# Altium footprint library AltiumDesigner.PcbLib: 3 footprints
Each footprint in its own frame and in the unit in brackets; x right, y up, seen from the top. Pads: shape width x height; smd on the part's side, far side on the other; paste and mask are expansions set on the pad; w line width, h text height; cw(c..) or ccw(c..) is an arc to the next point about the centre after c.
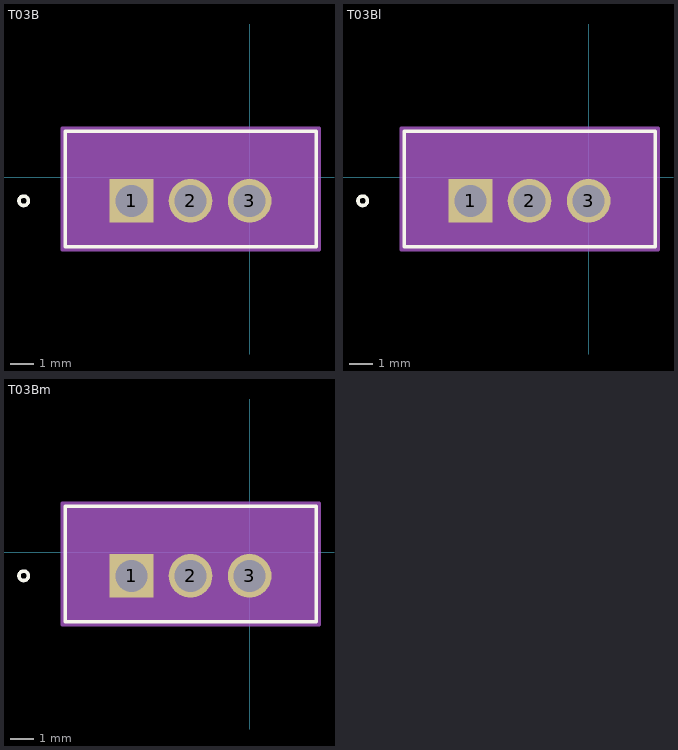
[diagram p0: the footprints below, top view; thin cyan lines are the x and y axes]

## T03B [mil]
pads (3):
  rect 74x74 hole 54: 1(-200,-40)
  round 74 hole 54: 2(-100,-40) 3(0,-40)
Top Overlay:
  circle w6: c-382.5,-40 r8
  lines w6: -312.5,-117.5 112.5,-117.5 112.5,77.5 -312.5,77.5 -312.5,-117.5
Mechanical 13:
  circle w0: c-287.5,-40 r8
  lines w1: -307.5,-112.5 107.5,-112.5 107.5,72.5 -307.5,72.5 -307.5,-112.5
  lines w6: -210,-40 -190,-40 ; -200,-50 -200,-30
Mechanical 15:
  region: 117.5,-122.5 -317.5,-122.5 -317.5,82.5 117.5,82.5
  lines w6: -317.5,-122.5 -317.5,82.5 117.5,82.5 117.5,-122.5 -317.5,-122.5
3D body: height 10, standoff 0, extent 0,0 10,10

## T03Bl [mil]
pads (3):
  rect 74x74 hole 54: 1(-200,-40)
  round 74 hole 54: 2(-100,-40) 3(0,-40)
Top Overlay:
  circle w6: c-382.5,-40 r8
  lines w6: -312.5,-117.5 112.5,-117.5 112.5,77.5 -312.5,77.5 -312.5,-117.5
Mechanical 13:
  circle w0: c-287.5,-40 r8
  lines w1: -307.5,-112.5 107.5,-112.5 107.5,72.5 -307.5,72.5 -307.5,-112.5
  lines w6: -210,-40 -190,-40 ; -200,-50 -200,-30
Mechanical 15:
  region: 117.5,-122.5 -317.5,-122.5 -317.5,82.5 117.5,82.5
  lines w6: -317.5,-122.5 -317.5,82.5 117.5,82.5 117.5,-122.5 -317.5,-122.5
3D body: height 10, standoff 0, extent 0,0 10,10

## T03Bm [mil]
pads (3):
  rect 74x74 hole 54: 1(-200,-40)
  round 74 hole 54: 2(-100,-40) 3(0,-40)
Top Overlay:
  circle w6: c-382.5,-40 r8
  lines w6: -312.5,-117.5 112.5,-117.5 112.5,77.5 -312.5,77.5 -312.5,-117.5
Mechanical 13:
  circle w0: c-287.5,-40 r8
  lines w1: -307.5,-112.5 107.5,-112.5 107.5,72.5 -307.5,72.5 -307.5,-112.5
  lines w6: -210,-40 -190,-40 ; -200,-50 -200,-30
Mechanical 15:
  region: 117.5,-122.5 -317.5,-122.5 -317.5,82.5 117.5,82.5
  lines w6: -317.5,-122.5 -317.5,82.5 117.5,82.5 117.5,-122.5 -317.5,-122.5
3D body: height 10, standoff 0, extent 0,0 10,10